# Altium footprint library Laird.PcbLib: 1 footprints
Each footprint in its own frame and in the unit in brackets; x right, y up, seen from the top. Pads: shape width x height; smd on the part's side, far side on the other; paste and mask are expansions set on the pad; w line width, h text height; cw(c..) or ccw(c..) is an arc to the next point about the centre after c.
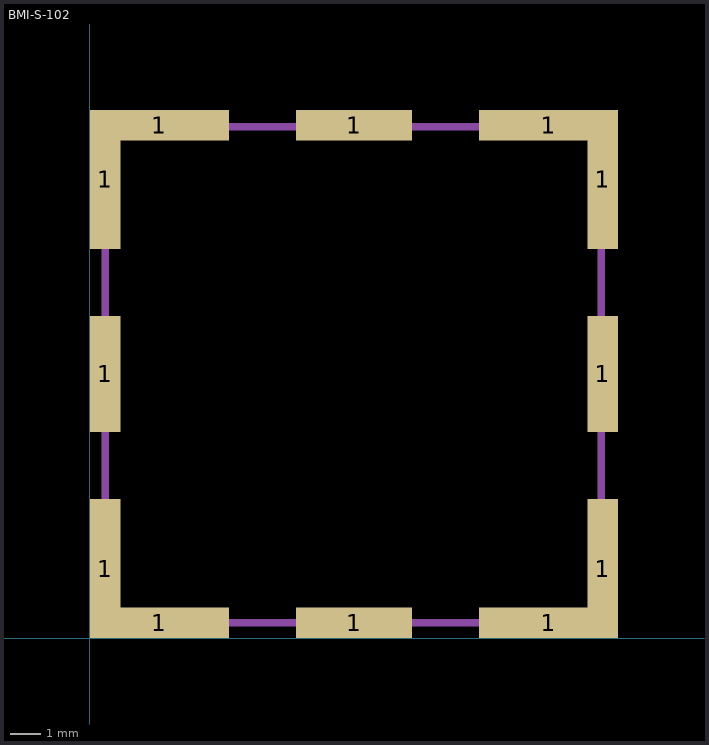
[diagram p0: the footprint, top view; thin cyan lines are the x and y axes]

## BMI-S-102 [mm] "Surface mount EMI shield"
height 3.6
pads (12):
  rect 1x4.55 smd: 1(0.5,2.275) 1(0.5,15.025) 1(16.8,2.275) 1(16.8,15.025)
  rect 1x3.8 smd: 1(0.5,8.65) 1(16.8,8.65)
  rect 4.55x1 smd: 1(2.275,0.5) 1(2.275,16.8) 1(15.025,0.5) 1(15.025,16.8)
  rect 3.8x1 smd: 1(8.65,0.5) 1(8.65,16.8)
Mechanical 1:
  lines w0.254: 0.5,0.5 0.5,16.75 16.75,16.75 16.75,0.5 0.5,0.5
3D body: height 3.6, standoff 3.5, extent 0.5,0.5 16.75,16.75